# EAGLE library part LMH6574 (library scono)
https://www.digikey.com/product-detail/en/texas-instruments/LMH6574MAX-NOPB/296-35333-1-ND/3739040
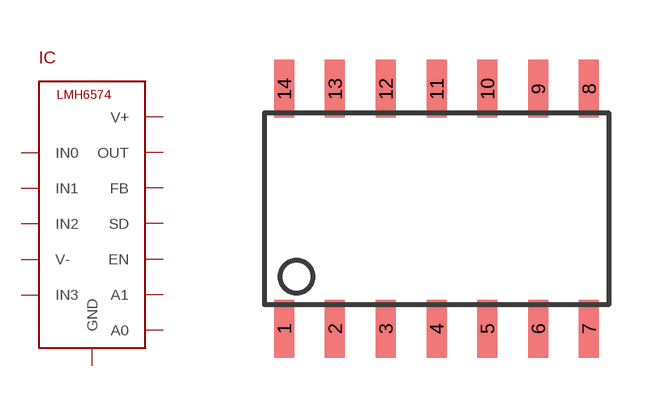
[diagram p38: symbol with the pads of 14SOIC; footprint 14SOIC]

Designator prefix IC

## LMH6574  [14SOIC]
1  IN0
2  GND
3  IN1
4  GND
5  IN2
6  V-
7  IN3
8  A0
9  A1
10  EN
11  SD
12  FB
13  OUT
14  V+

## Footprint 14SOIC (pad centres in mm)
smd 0.5 x 1.45: 1 -3.81,-3; 2 -2.54,-3; 3 -1.27,-3; 4 0,-3; 5 1.27,-3; 6 2.54,-3; 7 3.81,-3; 8 3.81,3; 9 2.54,3; 10 1.27,3; 11 0,3; 12 -1.27,3; 13 -2.54,3; 14 -3.81,3